# EAGLE library part SX1280 (library SobieskiSat2)
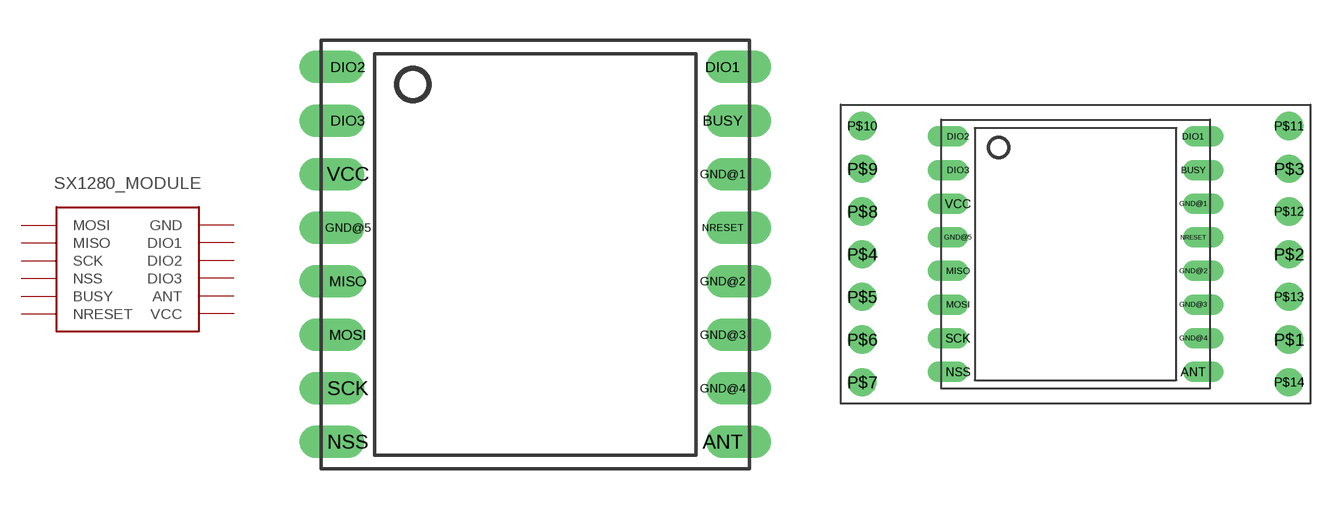
[diagram p2: symbol with the pads of MODULE_SX1280_THT; footprints MODULE_SX1280_THT, MODULE_SX1280_THT_EXT]

Designator prefix -

## SX1280THT  [MODULE_SX1280_THT]
ANT  ANT
BUSY  BUSY
DIO1  DIO1
DIO2  DIO2
DIO3  DIO3
GND@1  GND
GND@2  GND
GND@3  GND
GND@4  GND
GND@5  GND
MISO  MISO
MOSI  MOSI
NRESET  NRESET
NSS  NSS
SCK  SCK
VCC  VCC

## SX1280EXT  [MODULE_SX1280_THT_EXT]
Pads as for MODULE_SX1280_THT

## SX1280  [MODULE_SX1280]
1  DIO2
2  DIO3
3  VCC
4  GND
5  MISO
6  MOSI
7  SCK
8  NSS
9  ANT
10  GND
11  GND
12  GND
13  NRESET
14  GND
15  BUSY
16  DIO1

## SX1280433  [MODULE_SX1280]
1  GND
2  GND
3  VCC
4  NRESET
5  DIO1
6  DIO1
7  DIO2
8  DIO3
9  GND
10  BUSY
11  ANT
12  SCK
13  MISO
14  MOSI
15  NSS

## Footprint MODULE_SX1280_THT (pad centres in mm)
drill 0.7 offset: ANT 7,-7; BUSY 7,5; DIO1 7,7; DIO2 -7,7; DIO3 -7,5; GND@1 7,3; GND@2 7,-1; GND@3 7,-3; GND@4 7,-5; GND@5 -7,1; MISO -7,-1; MOSI -7,-3; NRESET 7,1; NSS -7,-7; SCK -7,-5; VCC -7,3

## Footprint MODULE_SX1280_THT_EXT (pad centres in mm)
drill 0.7 offset: ANT 7,-7; BUSY 7,5; DIO1 7,7; DIO2 -7,7; DIO3 -7,5; GND@1 7,3; GND@2 7,-1; GND@3 7,-3; GND@4 7,-5; GND@5 -7,1; MISO -7,-1; MOSI -7,-3; NRESET 7,1; NSS -7,-7; SCK -7,-5; VCC -7,3
drill 1.016 pad 1.676: P$1 12.7,-5.08; P$2 12.7,0; P$3 12.7,5.08; P$4 -12.7,0; P$5 -12.7,-2.54; P$6 -12.7,-5.08; P$7 -12.7,-7.62; P$8 -12.7,2.54; P$9 -12.7,5.08; P$10 -12.7,7.62; P$11 12.7,7.62; P$12 12.7,2.54; P$13 12.7,-2.54; P$14 12.7,-7.62

## Footprint MODULE_SX1280 (pad centres in mm)
smd 3 x 1.5: 1 -8,7; 2 -8,5; 3 -8,3; 4 -8,1; 5 -8,-1; 6 -8,-3; 7 -8,-5; 8 -8,-7; 9 8,-7; 10 8,-5; 11 8,-3; 12 8,-1; 13 8,1; 14 8,3; 15 8,5; 16 8,7